# Altium footprint library MMBT3904LT1G.PcbLib: 2 footprints
Each footprint in its own frame and in the unit in brackets; x right, y up, seen from the top. Pads: shape width x height; smd on the part's side, far side on the other; paste and mask are expansions set on the pad; w line width, h text height; cw(c..) or ccw(c..) is an arc to the next point about the centre after c.
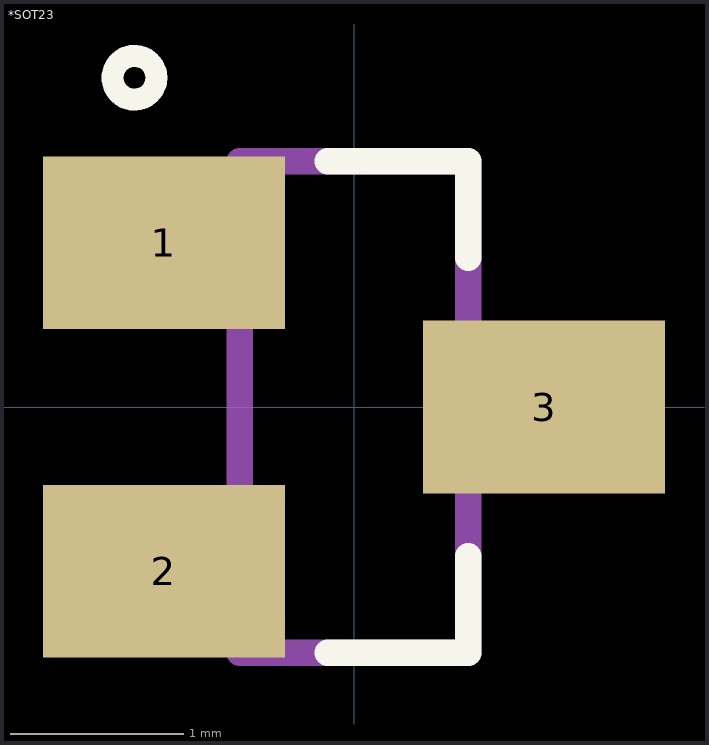
[diagram p0: the footprints below, top view; thin cyan lines are the x and y axes]

## *SOT23 [mm]
pads (3):
  rect 1.4x1 smd: 1(-1.1,0.95) 2(-1.1,-0.95) 3(1.1,0)
Top Overlay:
  circle w0.127: c-1.27,1.905 r0.127
  lines w0.152: -0.152,-1.422 0.66,-1.422 0.66,-0.864 ; -0.152,1.422 0.66,1.422 0.66,0.864
Mechanical 4:
  region: -0.712,1.169 -0.712,0.711 -1.295,0.711 -1.295,1.169
  region: -0.711,-0.711 -0.711,-1.169 -1.296,-1.169 -1.296,-0.711
  region: 1.296,0.228 1.296,-0.228 0.712,-0.228 0.712,0.228
  region: -0.712,1.169 -0.712,0.711 -1.295,0.711 -1.295,1.169
  region: -0.711,-0.711 -0.711,-1.169 -1.296,-1.169 -1.296,-0.711
  region: 1.296,0.228 1.296,-0.228 0.712,-0.228 0.712,0.228
  lines w0.152: -0.66,-1.422 -0.66,1.422 ; -0.66,-1.422 0.66,-1.422 ; -0.66,-1.422 -0.66,1.422 ; -0.66,-1.422 0.66,-1.422 ; -0.66,1.422 0.66,1.422 ; -0.66,1.422 0.66,1.422 ; 0.66,-1.422 0.66,1.422 ; 0.66,-1.422 0.66,1.422

## PCBComponent_1 [mm]